# Altium schematic symbol library LMK1C1104PWR.SchLib: 1 symbol
Pins are listed as number, name and electrical type; pins without a type are passive.

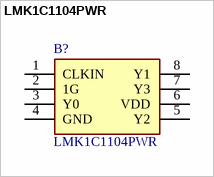
[diagram p0: symbol LMK1C1104PWR]

## LMK1C1104PWR
designator B?
Clock Buffer 4 Channel Output LVCMOS 1.8V Buffer 8-TSSOP -40 to 125; Manufacturer_Name: Texas Instruments; Geometry.Height: 1.2mm; Manufacturer_Part_Number: LMK1C1104PWR; Mouser Part Number: 595-LMK1C1104PWR; Mouser Price/Stock: https://www.mouser.co.uk/ProductDetail/Texas-Instruments/LMK1C1104PWR?qs=xZ%2FP%252Ba9zWqZKsBQFHYffew%3D%3D; Arrow Part Number: LMK1C1104PWR; Arrow Price/Stock: https://www.arrow.com/en/products/lmk1c1104pwr/texas-instruments?utm_currency=USD&region=nac; Datasheet Link: https://www.ti.com/lit/gpn/LMK1C1104
footprint SOP65P640X120-8N
pins: 1 CLKIN, 2 1G, 3 Y0, 4 GND, 5 Y2, 6 VDD, 7 Y3, 8 Y1